# EAGLE library part SMA-SMD (library con-coax)
SMA 50 Ohm Straight Jack Receptacle - Surface Mount www.johnsoncomponents.com Source: http://catalog.digikey.com .. 142-0711-201, 205, 202, 206.pdf
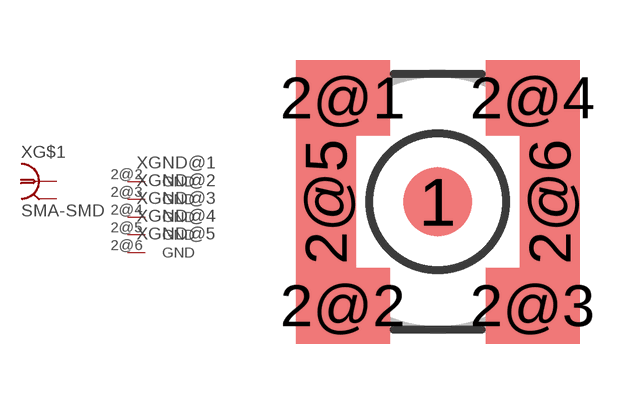
[diagram p0: symbol with the pads of SMA-SMD; footprint SMA-SMD]

Designator prefix X; gates G$1=BU-BNC GND@1=PIN_GND GND@2=PIN_GND GND@3=PIN_GND GND@4=PIN_GND GND@5=PIN_GND

## SMA-SMD  [SMA-SMD]
1  G$1:1  pas
2@1  G$1:GND  pwr
2@2  GND@1:GND  pwr
2@3  GND@2:GND  pwr
2@4  GND@3:GND  pwr
2@5  GND@4:GND  pwr
2@6  GND@5:GND  pwr

## Footprint SMA-SMD (pad centres in mm)
SMA 50 Ohm Straight Jack Receptacle - Surface Mount www.johnsoncomponents.com Source: http://catalog.digikey.com .. 142-0711-201, 205, 202, 206.pdf
smd 1.73 x 1.73: 1 0,0
smd 2.35 x 1.9: 2@1 -2.375,2.6; 2@2 -2.375,-2.6; 2@3 2.375,-2.6; 2@4 2.375,2.6
smd 1.5 x 3.4: 2@5 -2.8,0; 2@6 2.8,0